# Altium schematic symbol library SCH - MISC - ICM-42688-P.SchLib: 1 symbol
Pins are listed as number, name and electrical type; pins without a type are passive.

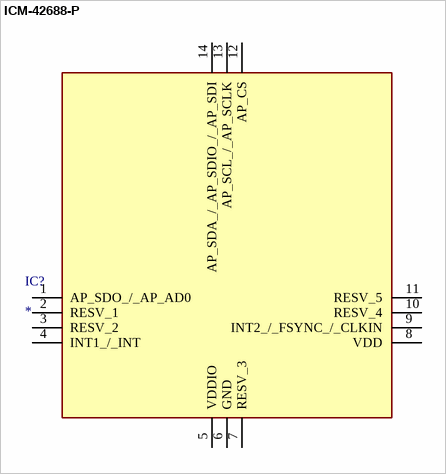
[diagram p0: symbol ICM-42688-P]

## ICM-42688-P
designator IC?
Integrated Circuit; Manufacturer_Name: TDK; Manufacturer_Part_Number: ICM-42688-P; Description: IMU (Inertial Measurement Unit); Datasheet Link: https://3cfeqx1hf82y3xcoull08ihx-wpengine.netdna-ssl.com/wp-content/uploads/2021/06/DS-000347-ICM-42688-P-v1.5.pdf; Mouser Part Number: 410-ICM-42688-P; Mouser Price/Stock: https://www.mouser.co.uk/ProductDetail/TDK-InvenSense/ICM-42688-P?qs=OlC7AqGiEDk8QrNAV728zw%3D%3D; Arrow Part Number: ICM-42688-P; Arrow Price/Stock: https://www.arrow.com/en/products/icm-42688-p/invensense?utm_currency=USD&region=nac
footprint IIM42352
pins: 1 AP_SDO_/_AP_AD0, 2 RESV_1, 3 RESV_2, 4 INT1_/_INT, 5 VDDIO, 6 GND, 7 RESV_3, 8 VDD, 9 INT2_/_FSYNC_/_CLKIN, 10 RESV_4, 11 RESV_5, 12 AP_CS, 13 AP_SCL_/_AP_SCLK, 14 AP_SDA_/_AP_SDIO_/_AP_SDI